# Altium footprint library PcbLib1.PcbLib: 36 footprints (part 1 of 3)
Each footprint in its own frame and in the unit in brackets; x right, y up, seen from the top. Pads: shape width x height; smd on the part's side, far side on the other; paste and mask are expansions set on the pad; w line width, h text height; cw(c..) or ccw(c..) is an arc to the next point about the centre after c.
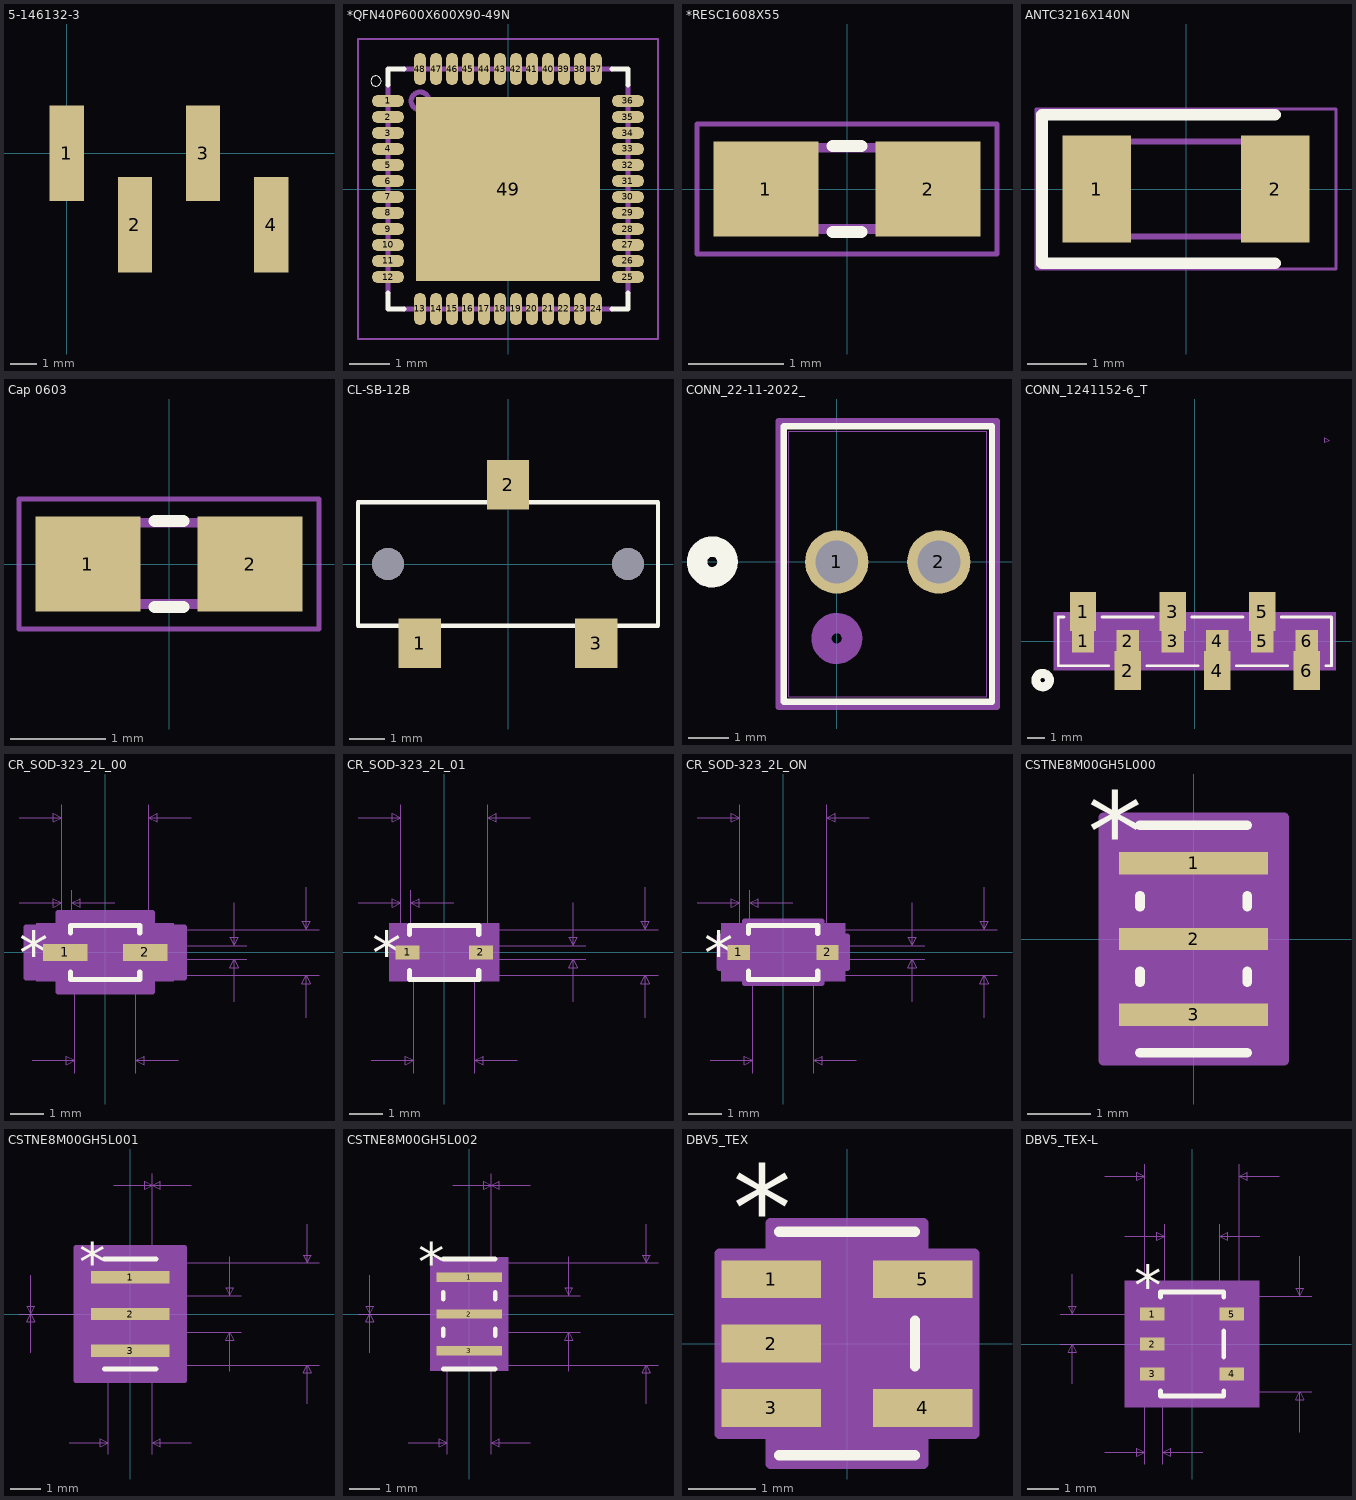
[diagram p0: the footprints below, top view; thin cyan lines are the x and y axes]

## 5-146132-3 [mm] "Header pin 4pos"
pads (4):
  rect 1.27x3.56 smd paste+0 mask+0: 1(0,0) 2(2.54,-2.67) 3(5.08,0) 4(7.62,-2.67)
3D body "c-5-146132-2-l-3d.stp": height 10.03, standoff -0.01, extent -1.092,-3.784 8.662,1.092

## *QFN40P600X600X90-49N [mm]
pads (49):
  oval 0.8x0.3 smd: 1(-3,2.2) 2(-3,1.8) 3(-3,1.4) 4(-3,1) 5(-3,0.6) 6(-3,0.2) 7(-3,-0.2) 8(-3,-0.6) 9(-3,-1) 10(-3,-1.4) 11(-3,-1.8) 12(-3,-2.2) 25(3,-2.2) 26(3,-1.8) 27(3,-1.4) 28(3,-1) 29(3,-0.6) 30(3,-0.2) 31(3,0.2) 32(3,0.6) 33(3,1) 34(3,1.4) 35(3,1.8) 36(3,2.2)
  oval 0.3x0.8 smd: 13(-2.2,-3) 14(-1.8,-3) 15(-1.4,-3) 16(-1,-3) 17(-0.6,-3) 18(-0.2,-3) 19(0.2,-3) 20(0.6,-3) 21(1,-3) 22(1.4,-3) 23(1.8,-3) 24(2.2,-3) 37(2.2,3) 38(1.8,3) 39(1.4,3) 40(1,3) 41(0.6,3) 42(0.2,3) 43(-0.2,3) 44(-0.6,3) 45(-1,3) 46(-1.4,3) 47(-1.8,3) 48(-2.2,3)
  rect 4.6x4.6 smd: 49(0,0)
Top Overlay:
  circle w0: c-3.3,2.7 r0.127
  lines w0.127: -3,-2.6 -3,-3 -2.6,-3 ; -3,2.6 -3,3 -2.6,3 ; 2.6,-3 3,-3 3,-2.6 ; 2.6,3 3,3 3,2.6
Top Paste:
  region: -1.453,1.45 1.45,1.45 1.45,-1.453 -1.453,-1.453
Top Solder:
  drawing of 48 lines, arcs and shapes, not listed
Mechanical 4:
  drawing of 106 lines, arcs and shapes, not listed
Mechanical 16:
  lines w0.05: -3.75,-3.75 -3.75,3.75 3.75,3.75 3.75,-3.75 -3.75,-3.75
3D body "NRF52832-QFAA-R--3DModel-STEP-56544.STEP": height 0.9, standoff 0, extent -3,-2.997 3,3.003

## *RESC1608X55 [mm]
pads (2):
  rect 1.1x1 smd: 1(-0.85,0) 2(0.85,0)
Top Overlay:
  lines w0.127: -0.15,-0.45 0.15,-0.45 ; -0.15,0.45 0.15,0.45
Mechanical 4:
  region: 0.33,0.48 0.83,0.48 0.83,-0.47 0.33,-0.47
  region: -0.838,0.48 -0.338,0.48 -0.338,-0.47 -0.838,-0.47
  region: 0.33,0.48 0.83,0.48 0.83,-0.47 0.33,-0.47
  region: -0.838,0.48 -0.338,0.48 -0.338,-0.47 -0.838,-0.47
  lines w0.102: -0.356,-0.419 0.356,-0.419 -0.356,-0.419 ; -0.356,0.432 0.356,0.432 -0.356,0.432
Mechanical 16:
  lines w0.051: -1.573,-0.683 -1.573,0.683 1.573,0.683 1.573,-0.683 -1.573,-0.683
3D body "0603_PAN-M.step": height 0.56, standoff 0, extent -0.902,-0.495 0.902,0.495

## ANTC3216X140N [mm]
pads (2):
  rect 1.15x1.8 smd: 1(-1.5,0) 2(1.5,0)
Top Overlay:
  lines w0.2: 1.5,-1.25 -2.425,-1.25 -2.425,1.25 1.5,1.25
Mechanical 13:
  lines w0.1: -1.6,0.225 -1.025,0.8 ; -1.6,-0.8 1.6,-0.8 1.6,0.8 -1.6,0.8 -1.6,-0.8
Mechanical 15:
  lines w0.05: -2.525,-1.35 2.525,-1.35 2.525,1.35 -2.525,1.35 -2.525,-1.35
3D body "AMCA31-2R450G-S1F-T3.stp": height 1.4, standoff 0, extent -1.6,-0.8 1.6,0.8

## Cap 0603 [mm]
pads (2):
  rect 1.1x1 smd: 1(-0.85,0) 2(0.85,0)
Top Overlay:
  lines w0.127: -0.15,-0.45 0.15,-0.45 ; -0.15,0.45 0.15,0.45
Mechanical 4:
  region: -0.838,0.48 -0.338,0.48 -0.338,-0.47 -0.838,-0.47
  region: 0.33,0.48 0.83,0.48 0.83,-0.47 0.33,-0.47
  region: -0.838,0.48 -0.338,0.48 -0.338,-0.47 -0.838,-0.47
  region: 0.33,0.48 0.83,0.48 0.83,-0.47 0.33,-0.47
  lines w0.102: -0.356,-0.419 0.356,-0.419 -0.356,-0.419 ; -0.356,0.432 0.356,0.432 -0.356,0.432
Mechanical 16:
  lines w0.051: -1.573,-0.683 1.573,-0.683 1.573,0.683 -1.573,0.683 -1.573,-0.683
3D body "CC0603N-M.step": height 0.71, standoff 0, extent -0.8,-0.406 0.8,0.406

## CL-SB-12B [mm]
pads (5):
  rect 1.2x1.4 smd: 1(-2.5,-2.25) 2(0,2.25) 3(2.5,-2.25)
  round 0.9 hole 0.9 unplated: ""(-3.4,0) ""(3.4,0)
Top Overlay:
  lines w0.127: -4.25,-1.75 -4.25,1.75 4.25,1.75 4.25,-1.75 -4.25,-1.75

## CONN_22-11-2022_ [mil]
pads (2):
  round 62 hole 42 mask+0: 1(0,0) 2(100,0)
Top Overlay:
  circle w20: c-122,0 r15
  lines w6: -52,-137.05 152,-137.05 152,132.95 -52,132.95 -52,-137.05
Bottom Overlay:
  circle w20: c-122,0 r15
Mechanical 13:
  circle w20: c0,-75 r15
  lines w1: -47,-132.05 147,-132.05 147,127.95 -47,127.95 -47,-132.05
Mechanical 15:
  lines w6: -57,-142.05 -57,137.95 157,137.95 157,-142.05 -57,-142.05
3D body: height 10, standoff 0, extent 0,0 10,10

## CONN_1241152-6_T [mil]
pads (12):
  rect 50x50 smd mask+0: 1(-250,0.5) 2(-150,0.5) 3(-50,0.5) 4(50,0.5) 5(150,0.5) 6(250,0.5)
  rect 59x87 smd paste+0 mask+0: 1(-250,66.5) 2(-150,-65.5) 3(-50,66.5) 4(50,-65.5) 5(150,66.5) 6(250,-65.5)
Top Overlay:
  circle w20: c-340,-86.5 r15
  circle w20: c-340,-86.5 r15
  lines w6: -292.6,54.5 -305,54.5 -305,-54.5 -192.6,-54.5 ; -207.4,54.5 -92.6,54.5 ; -107.4,-54.5 7.4,-54.5 ; -7.4,54.5 107.4,54.5 ; 92.6,-54.5 207.4,-54.5 ; 192.6,54.5 305,54.5 305,-54.5 292.6,-54.5
Mechanical 5:
  region: -315,64.5 315,64.5 315,-64.5 -315,-64.5
Mechanical 7:
  lines w1: 290,444.5 290,454.5 300,449.5 290,444.5
Mechanical 13:
  lines w1: -300,-49.5 -300,49.5 300,49.5 300,-49.5 -300,-49.5
Mechanical 15:
  region: 310,59.5 -310,59.5 -310,-59.5 310,-59.5
  lines w6: -310,-59.5 310,-59.5 310,59.5 -310,59.5 -310,-59.5
3D body "c-1241152-6-d-3d.stp": height 245, standoff 0.91, extent -305.11,-101.37 305.12,101.38
3D body: height 10, standoff 0, extent 0,0 10,10

## CR_SOD-323_2L_00 [mil]
pads (2):
  rect 52x20 smd paste+0 mask+0: 1(-47,0) 2(47,0)
Top Overlay:
  lines w6: -40.5,-23.1 -40.5,-31.5 40.5,-31.5 40.5,-23.1 ; -40.5,23.1 -40.5,31.5 40.5,31.5 40.5,23.1
  text "*" at -100.5,-25 h50
Mechanical 5:
  region: 80.5,-34 -80.5,-34 -80.5,34 80.5,34
Mechanical 7:
  lines w1: -101,58 -51,58 ; -101,158 -51,158 ; -85.5,-126.5 -35.5,-126.5 ; -51,73 -51,0 -51,173 ; -39,0 -39,73 ; -35.5,-141.5 -35.5,0 ; 0,-26.5 250.5,-26.5 ; 0,26.5 250.5,26.5 ; 11,58 -39,58 ; 35.5,-141.5 35.5,0 ; 51,-8 166,-8 ; 51,0 51,173 ; 51,8 166,8 ; 85.5,-126.5 35.5,-126.5 ; 101,158 51,158 ; 151,-58 151,-8 ; 151,58 151,8 ; 235.5,-76.5 235.5,-26.5 ; 235.5,76.5 235.5,26.5 ; -51,58 -61,63 -61,53 -51,58 ; -51,158 -61,163 -61,153 -51,158 ; -39,58 -29,63 -29,53 -39,58 ; -35.5,-126.5 -45.5,-121.5 -45.5,-131.5 -35.5,-126.5 ; 35.5,-126.5 45.5,-121.5 45.5,-131.5 35.5,-126.5 ; 51,158 61,163 61,153 51,158 ; 151,-8 146,-18 156,-18 151,-8 ; 151,8 146,18 156,18 151,8 ; 235.5,-26.5 230.5,-36.5 240.5,-36.5 235.5,-26.5 ; 235.5,26.5 230.5,36.5 240.5,36.5 235.5,26.5
  text "Default Padstyle: RX52Y20D0T" at -350,-335 h50
  text "Alt 1 Padstyle: OX60Y90D30P" at -337.5,-410 h50
  text "Alt 2 Padstyle: OX90Y60D30P" at -337.5,-485 h50
  text "0.102in/2.591mm" at -93.75,178 h25
  text "0.012in/0.305mm" at -138.75,78 h25
  text "0.016in/0.406mm" at 171,-12.5 h25
  text "0.053in/1.346mm" at 255.5,-12.5 h25
  text "0.071in/1.803mm" at -93.75,-171.5 h25
Mechanical 13:
  lines w1: -35.5,-13.25 -22.25,-26.5 ; -35.5,13.25 -22.25,26.5 ; -51,-8 -51,8 -35.5,8 -35.5,-8 -51,-8 ; -35.5,-26.5 35.5,-26.5 35.5,26.5 -35.5,26.5 -35.5,-26.5 ; 35.5,-8 35.5,8 51,8 51,-8 35.5,-8
  text "*" at -38,-25 h50
Mechanical 15:
  region: -55.5,-30 -93,-30 -93,30 -55.5,30 -55.5,46.5 55.5,46.5 55.5,30 93,30 93,-30 55.5,-30 55.5,-46.5 -55.5,-46.5
  lines w6: -93,-30 -93,30 -55.5,30 -55.5,46.5 55.5,46.5 55.5,30 93,30 93,-30 55.5,-30 55.5,-46.5 -55.5,-46.5 -55.5,-30 -93,-30
3D body: height 10, standoff 0, extent 0,0 10,10

## CR_SOD-323_2L_01 [mil]
pads (2):
  rect 28x16 smd paste+0 mask+0: 1(-43,0) 2(43,0)
Top Overlay:
  lines w6: -40.5,-21.1 -40.5,-31.5 40.5,-31.5 40.5,-21.1 ; -40.5,21.1 -40.5,31.5 40.5,31.5 40.5,21.1
  text "*" at -84.5,-25 h50
Mechanical 5:
  region: 64.5,-34 -64.5,-34 -64.5,34 64.5,34
Mechanical 7:
  lines w1: -101,58 -51,58 ; -101,158 -51,158 ; -85.5,-126.5 -35.5,-126.5 ; -51,73 -51,0 -51,173 ; -39,0 -39,73 ; -35.5,-141.5 -35.5,0 ; 0,-26.5 250.5,-26.5 ; 0,26.5 250.5,26.5 ; 11,58 -39,58 ; 35.5,-141.5 35.5,0 ; 51,-8 166,-8 ; 51,0 51,173 ; 51,8 166,8 ; 85.5,-126.5 35.5,-126.5 ; 101,158 51,158 ; 151,-58 151,-8 ; 151,58 151,8 ; 235.5,-76.5 235.5,-26.5 ; 235.5,76.5 235.5,26.5 ; -51,58 -61,63 -61,53 -51,58 ; -51,158 -61,163 -61,153 -51,158 ; -39,58 -29,63 -29,53 -39,58 ; -35.5,-126.5 -45.5,-121.5 -45.5,-131.5 -35.5,-126.5 ; 35.5,-126.5 45.5,-121.5 45.5,-131.5 35.5,-126.5 ; 51,158 61,163 61,153 51,158 ; 151,-8 146,-18 156,-18 151,-8 ; 151,8 146,18 156,18 151,8 ; 235.5,-26.5 230.5,-36.5 240.5,-36.5 235.5,-26.5 ; 235.5,26.5 230.5,36.5 240.5,36.5 235.5,26.5
  text "Default Padstyle: RX28Y16D0T" at -350,-333 h50
  text "Alt 1 Padstyle: OX60Y90D30P" at -337.5,-408 h50
  text "Alt 2 Padstyle: OX90Y60D30P" at -337.5,-483 h50
  text "0.102in/2.591mm" at -93.75,178 h25
  text "0.012in/0.305mm" at -138.75,78 h25
  text "0.016in/0.406mm" at 171,-12.5 h25
  text "0.053in/1.346mm" at 255.5,-12.5 h25
  text "0.071in/1.803mm" at -93.75,-171.5 h25
Mechanical 13:
  lines w1: -35.5,-13.25 -22.25,-26.5 ; -35.5,13.25 -22.25,26.5 ; -51,-8 -51,8 -35.5,8 -35.5,-8 -51,-8 ; -35.5,-26.5 35.5,-26.5 35.5,26.5 -35.5,26.5 -35.5,-26.5 ; 35.5,-8 35.5,8 51,8 51,-8 35.5,-8
  text "*" at -38,-25 h50
Mechanical 15:
  region: -39.5,-12 -61,-12 -61,12 -39.5,12 -39.5,30.5 39.5,30.5 39.5,12 61,12 61,-12 39.5,-12 39.5,-30.5 -39.5,-30.5
  lines w6: -61,-12 -61,12 -39.5,12 -39.5,30.5 39.5,30.5 39.5,12 61,12 61,-12 39.5,-12 39.5,-30.5 -39.5,-30.5 -39.5,-12 -61,-12
3D body: height 10, standoff 0, extent 0,0 10,10

## CR_SOD-323_2L_ON [mil]
pads (2):
  rect 26x18 smd paste+0 mask+0: 1(-52,0) 2(52,0)
Top Overlay:
  lines w6: -40.5,-22.1 -40.5,-31.5 40.5,-31.5 40.5,-22.1 ; -40.5,22.1 -40.5,31.5 40.5,31.5 40.5,22.1
  text "*" at -92.5,-25 h50
Mechanical 5:
  region: 72.5,-34 -72.5,-34 -72.5,34 72.5,34
Mechanical 7:
  lines w1: -101,58 -51,58 ; -101,158 -51,158 ; -85.5,-126.5 -35.5,-126.5 ; -51,73 -51,0 -51,173 ; -39,0 -39,73 ; -35.5,-141.5 -35.5,0 ; 0,-26.5 250.5,-26.5 ; 0,26.5 250.5,26.5 ; 11,58 -39,58 ; 35.5,-141.5 35.5,0 ; 51,-8 166,-8 ; 51,0 51,173 ; 51,8 166,8 ; 85.5,-126.5 35.5,-126.5 ; 101,158 51,158 ; 151,-58 151,-8 ; 151,58 151,8 ; 235.5,-76.5 235.5,-26.5 ; 235.5,76.5 235.5,26.5 ; -51,58 -61,53 -61,63 -51,58 ; -51,158 -61,153 -61,163 -51,158 ; -39,58 -29,53 -29,63 -39,58 ; -35.5,-126.5 -45.5,-131.5 -45.5,-121.5 -35.5,-126.5 ; 35.5,-126.5 45.5,-131.5 45.5,-121.5 35.5,-126.5 ; 51,158 61,153 61,163 51,158 ; 151,-8 156,-18 146,-18 151,-8 ; 151,8 156,18 146,18 151,8 ; 235.5,-26.5 240.5,-36.5 230.5,-36.5 235.5,-26.5 ; 235.5,26.5 240.5,36.5 230.5,36.5 235.5,26.5
  text "0.071in/1.803mm" at -93.75,-171.5 h25
  text "0.053in/1.346mm" at 255.5,-12.5 h25
  text "0.016in/0.406mm" at 171,-12.5 h25
  text "0.012in/0.305mm" at -138.75,78 h25
  text "0.102in/2.591mm" at -93.75,178 h25
  text "Alt 2 Padstyle: OX90Y60D30P" at -337.5,-484 h50
  text "Alt 1 Padstyle: OX60Y90D30P" at -337.5,-409 h50
  text "Default Padstyle: RX26Y18D0T" at -315,-320 h50
Mechanical 13:
  lines w1: -35.5,-13.25 -22.25,-26.5 ; -35.5,13.25 -22.25,26.5 ; -51,-8 -35.5,-8 -35.5,8 -51,8 -51,-8 ; -35.5,-26.5 -35.5,26.5 35.5,26.5 35.5,-26.5 -35.5,-26.5 ; 35.5,-8 51,-8 51,8 35.5,8 35.5,-8
  text "*" at -38,-25 h50
Mechanical 15:
  region: -45.5,-19 -75,-19 -75,19 -45.5,19 -45.5,36.5 45.5,36.5 45.5,19 75,19 75,-19 45.5,-19 45.5,-36.5 -45.5,-36.5
  lines w6: -75,-19 -45.5,-19 -45.5,-36.5 45.5,-36.5 45.5,-19 75,-19 75,19 45.5,19 45.5,36.5 -45.5,36.5 -45.5,19 -75,19 -75,-19
3D body "CR_SOD-323_2L_ONS-L.step": height 43.11, standoff 0, extent -55.99,-27.99 45.99,25
3D body: height 10, standoff 0, extent 0,0 10,10

## CSTNE8M00GH5L000 [mil]
pads (3):
  rect 93x14 smd paste+0 mask+0: 1(0,47.24) 2(0,0) 3(0,-47.24)
Top Overlay:
  lines w6: -33.5,-71 33.5,-71 ; -33.5,-27.14 -33.5,-20.1 ; -33.5,20.1 -33.5,27.14 ; -33.5,71 33.5,71 ; 33.5,-27.14 33.5,-20.1 ; 33.5,20.1 33.5,27.14
  text "*" at -66,42.24 h50
Mechanical 5:
  region: 54,-73.5 -54,-73.5 -54,73.5 54,73.5
Mechanical 13:
  lines w1: -28.5,56 -18.5,66 ; -28.5,-66 28.5,-66 28.5,-47.24 28.5,0 28.5,47.24 28.5,66 -28.5,66 -28.5,47.24 -28.5,0 -28.5,-47.24 -28.5,-66
  text "*" at -21,16 h50
Mechanical 15:
  region: 28.5,-66 -28.5,-66 -28.5,66 28.5,66
  region: 56.5,-76 -56.5,-76 -56.5,76 56.5,76
  lines w6: -56.5,-76 56.5,-76 56.5,76 -56.5,76 -56.5,-76
3D body "CSTNE12M0GH5L000R0--3DModel-STEP-56544.STEP": height 31.5, standoff 0, extent -25.59,-62.99 25.59,63

## CSTNE8M00GH5L001 [mil]
pads (3):
  rect 101x16 smd paste+0 mask+0: 1(0,47.24) 2(0,0) 3(0,-47.24)
Top Overlay:
  lines w6: -33.5,-71 33.5,-71 ; -33.5,71 33.5,71
  text "*" at -66,42.24 h50
Mechanical 5:
  region: 58,-73.5 -58,-73.5 -58,73.5 58,73.5
Mechanical 7:
  lines w1: -128.5,-50 -128.5,0 ; -128.5,50 -128.5,0 ; -78.5,-166 -28.5,-166 ; -28.5,-181 -28.5,23.62 ; -21.5,166 28.5,166 ; 28.5,-181 28.5,23.62 ; 28.5,-66 243.5,-66 ; 28.5,-23.62 143.5,-23.62 ; 28.5,66 243.5,66 ; 78.5,-166 28.5,-166 ; 78.5,166 28.5,166 ; 128.5,-73.62 128.5,-23.62 ; 128.5,73.62 128.5,23.62 ; 143.5,23.62 28.5,23.62 ; 228.5,-116 228.5,-66 ; 228.5,116 228.5,66 ; -128.5,0 -123.5,-10 -133.5,-10 -128.5,0 ; -128.5,0 -123.5,10 -133.5,10 -128.5,0 ; -28.5,-166 -38.5,-171 -38.5,-161 -28.5,-166 ; 28.5,-166 38.5,-171 38.5,-161 28.5,-166 ; 28.5,23.62 28.5,181 28.5,23.62 ; 28.5,166 38.5,161 38.5,171 28.5,166 ; 28.5,166 18.5,161 18.5,171 28.5,166 ; 128.5,-23.62 133.5,-33.62 123.5,-33.62 128.5,-23.62 ; 128.5,23.62 133.5,33.62 123.5,33.62 128.5,23.62 ; 228.5,-66 233.5,-76 223.5,-76 228.5,-66 ; 228.5,66 233.5,76 223.5,76 228.5,66 ; -143.5,0 -28.5,0 -143.5,0
  text "0in/0mm" at -236,-12.5 h25
  text "0.132in/3.353mm" at 248.5,-12.5 h25
  text "0.047in/1.2mm" at 148.5,-12.5 h25
  text "0in/0mm" at -15.25,186 h25
  text "0.057in/1.448mm" at -93.75,-211 h25
  text "Alt 2 Padstyle: OX90Y60D30P" at -337.5,-466 h50
  text "Alt 1 Padstyle: OX60Y90D30P" at -337.5,-391 h50
  text "Default Padstyle: RX101Y16D0T" at -362.5,-316 h50
Mechanical 13:
  lines w1: -28.5,56 -18.5,66 ; -28.5,-66 28.5,-66 28.5,-47.24 28.5,0 28.5,47.24 28.5,66 -28.5,66 -28.5,47.24 -28.5,0 -28.5,-47.24 -28.5,-66
  text "*" at -21,16 h50
Mechanical 15:
  region: 28.5,-66 -28.5,-66 -28.5,66 28.5,66
  region: 70.5,-86 -70.5,-86 -70.5,86 70.5,86
  lines w6: -70.5,-86 70.5,-86 70.5,86 -70.5,86 -70.5,-86
3D body: height 10, standoff 0, extent 0,0 10,10

## CSTNE8M00GH5L002 [mil]
pads (3):
  rect 85x12 smd paste+0 mask+0: 1(0,47.24) 2(0,0) 3(0,-47.24)
Top Overlay:
  lines w6: -33.5,-71 33.5,-71 ; -33.5,-28.14 -33.5,-19.1 ; -33.5,19.1 -33.5,28.14 ; -33.5,71 33.5,71 ; 33.5,-28.14 33.5,-19.1 ; 33.5,19.1 33.5,28.14
  text "*" at -66,42.24 h50
Mechanical 5:
  region: 50,-73.5 -50,-73.5 -50,73.5 50,73.5
Mechanical 7:
  lines w1: -128.5,-50 -128.5,0 ; -128.5,50 -128.5,0 ; -78.5,-166 -28.5,-166 ; -28.5,-181 -28.5,23.62 ; -21.5,166 28.5,166 ; 28.5,-181 28.5,23.62 ; 28.5,-66 243.5,-66 ; 28.5,-23.62 143.5,-23.62 ; 28.5,66 243.5,66 ; 78.5,-166 28.5,-166 ; 78.5,166 28.5,166 ; 128.5,-73.62 128.5,-23.62 ; 128.5,73.62 128.5,23.62 ; 143.5,23.62 28.5,23.62 ; 228.5,-116 228.5,-66 ; 228.5,116 228.5,66 ; -128.5,0 -123.5,-10 -133.5,-10 -128.5,0 ; -128.5,0 -123.5,10 -133.5,10 -128.5,0 ; -28.5,-166 -38.5,-171 -38.5,-161 -28.5,-166 ; 28.5,-166 38.5,-171 38.5,-161 28.5,-166 ; 28.5,23.62 28.5,181 28.5,23.62 ; 28.5,166 38.5,161 38.5,171 28.5,166 ; 28.5,166 18.5,161 18.5,171 28.5,166 ; 128.5,-23.62 133.5,-33.62 123.5,-33.62 128.5,-23.62 ; 128.5,23.62 133.5,33.62 123.5,33.62 128.5,23.62 ; 228.5,-66 233.5,-76 223.5,-76 228.5,-66 ; 228.5,66 233.5,76 223.5,76 228.5,66 ; -143.5,0 -28.5,0 -143.5,0
  text "0in/0mm" at -236,-12.5 h25
  text "0.132in/3.353mm" at 248.5,-12.5 h25
  text "0.047in/1.2mm" at 148.5,-12.5 h25
  text "0in/0mm" at -15.25,186 h25
  text "0.057in/1.448mm" at -93.75,-211 h25
  text "Alt 2 Padstyle: OX90Y60D30P" at -337.5,-466 h50
  text "Alt 1 Padstyle: OX60Y90D30P" at -337.5,-391 h50
  text "Default Padstyle: RX85Y12D0T" at -350,-316 h50
Mechanical 13:
  lines w1: -28.5,56 -18.5,66 ; -28.5,-66 28.5,-66 28.5,-47.24 28.5,0 28.5,47.24 28.5,66 -28.5,66 -28.5,47.24 -28.5,0 -28.5,-47.24 -28.5,-66
  text "*" at -21,16 h50
Mechanical 15:
  region: 28.5,-66 -28.5,-66 -28.5,66 28.5,66
  region: 46.5,-70 -46.5,-70 -46.5,70 46.5,70
  lines w6: -46.5,-70 46.5,-70 46.5,70 -46.5,70 -46.5,-70
3D body: height 10, standoff 0, extent 0,0 10,10

## DBV5_TEX [mil]
pads (5):
  rect 58x22 smd: 1(-44,37.4) 2(-44,0) 3(-44,-37.4) 4(44,-37.4) 5(44,37.4)
Top Overlay:
  lines w6: -39.5,-65 39.5,-65 ; -39.5,65 39.5,65 ; 39.5,-13.3 39.5,13.3
  text "*" at -66.5,54.4 h50
Mechanical 13:
  lines w0: -12,60 ccw(c0,60) 12,60
  lines w1: -59,-47.4 -34.5,-47.4 -34.5,-27.4 -59,-27.4 -59,-47.4 ; -59,-10 -34.5,-10 -34.5,10 -59,10 -59,-10 ; -59,27.4 -34.5,27.4 -34.5,47.4 -59,47.4 -59,27.4 ; -34.5,-60 -34.5,60 34.5,60 34.5,-60 -34.5,-60 ; 34.5,-47.4 59,-47.4 59,-27.4 34.5,-27.4 34.5,-47.4 ; 34.5,27.4 59,27.4 59,47.4 34.5,47.4 34.5,27.4
  text "*" at -37,16.4 h50
Mechanical 15:
  region: 44.5,-70 -44.5,-70 -44.5,-52.4 -74,-52.4 -74,52.4 -44.5,52.4 -44.5,70 44.5,70 44.5,52.4 74,52.4 74,-52.4 44.5,-52.4
  lines w6: -74,-52.4 -74,52.4 -44.5,52.4 -44.5,70 44.5,70 44.5,52.4 74,52.4 74,-52.4 44.5,-52.4 44.5,-70 -44.5,-70 -44.5,-52.4 -74,-52.4
3D body: height 10, standoff 0, extent 0,0 10,10
3D body "DBV5_TEX.step": height 57.09, standoff 0, extent -59.01,-60 59.02,60

## DBV5_TEX-L [mil]
pads (5):
  rect 30.5x16 smd paste+0 mask+0: 1(-49.75,37.4) 2(-49.75,0) 3(-49.75,-37.4) 4(49.75,-37.4) 5(49.75,37.4)
Top Overlay:
  lines w6: -39.5,-58.5 -39.5,-65 39.5,-65 39.5,-58.5 ; -39.5,58.5 -39.5,65 39.5,65 39.5,58.5 ; 39.5,-16.3 39.5,16.3
  text "*" at -72.25,48.4 h50
Mechanical 5:
  region: 84,-79 -84,-79 -84,79 84,79
Mechanical 7:
  lines w1: -164.75,0 -49.75,0 ; -164.75,37.4 -49.75,37.4 ; -149.75,-50 -149.75,0 ; -149.75,87.4 -149.75,37.4 ; -109,-135 -59,-135 ; -109,210 -59,210 ; -84.5,135 -34.5,135 ; -59,-150 -59,0 -59,225 ; -37,-150 -37,0 ; -34.5,0 -34.5,150 ; 0,-60 149.5,-60 ; 0,60 149.5,60 ; 13,-135 -37,-135 ; 34.5,0 34.5,150 ; 59,0 59,225 ; 84.5,135 34.5,135 ; 109,210 59,210 ; 134.5,-110 134.5,-60 ; 134.5,110 134.5,60 ; -149.75,0 -144.75,-10 -154.75,-10 -149.75,0 ; -149.75,37.4 -144.75,47.4 -154.75,47.4 -149.75,37.4 ; -59,-135 -69,-140 -69,-130 -59,-135 ; -59,210 -69,205 -69,215 -59,210 ; -37,-135 -27,-140 -27,-130 -37,-135 ; -34.5,135 -44.5,130 -44.5,140 -34.5,135 ; 34.5,135 44.5,130 44.5,140 34.5,135 ; 59,210 69,205 69,215 59,210 ; 134.5,-60 139.5,-70 129.5,-70 134.5,-60 ; 134.5,60 139.5,70 129.5,70 134.5,60
  text "0.022in/0.559mm" at -141.75,-180 h25
  text "0.037in/0.95mm" at -344.75,6.2 h25
  text "0.12in/3.048mm" at 154.5,-12.5 h25
  text "0.118in/2.997mm" at -93.75,230 h25
  text "0.069in/1.753mm" at -93.75,155 h25
  text "Alt 2 Padstyle: OX90Y60D30P" at -337.5,-560 h50
  text "Alt 1 Padstyle: OX60Y90D30P" at -337.5,-500 h50
  text "Pin 1 Padstyle: RX30p5Y16D0T" at -350,-320 h50
  text "Default Padstyle: RX30p5Y16D0T" at -375,-260 h50
Mechanical 13:
  lines w0: -12,60 ccw(c0,60) 12,60
  lines w1: -59,-47.4 -34.5,-47.4 -34.5,-27.4 -59,-27.4 -59,-47.4 ; -59,-10 -34.5,-10 -34.5,10 -59,10 -59,-10 ; -59,27.4 -34.5,27.4 -34.5,47.4 -59,47.4 -59,27.4 ; -34.5,-60 -34.5,60 34.5,60 34.5,-60 -34.5,-60 ; 34.5,-47.4 59,-47.4 59,-27.4 34.5,-27.4 34.5,-47.4 ; 34.5,27.4 59,27.4 59,47.4 34.5,47.4 34.5,27.4
  text "*" at -37,10.4 h50
Mechanical 15:
  region: 38.5,-64 -38.5,-64 -38.5,-49.4 -69,-49.4 -69,49.4 -38.5,49.4 -38.5,64 38.5,64 38.5,49.4 69,49.4 69,-49.4 38.5,-49.4
  lines w6: -69,-49.4 -69,49.4 -38.5,49.4 -38.5,64 38.5,64 38.5,49.4 69,49.4 69,-49.4 38.5,-49.4 38.5,-64 -38.5,-64 -38.5,-49.4 -69,-49.4
3D body: height 10, standoff 0, extent 0,0 10,10